# EAGLE library part MSP430G2553 (library texas)
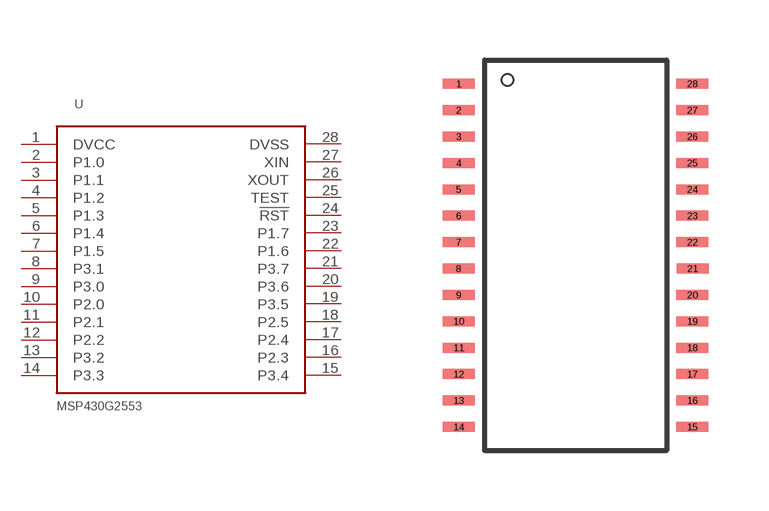
[diagram p1: symbol with the pads of TSSOP28; footprint TSSOP28]

Designator prefix -

## MSP430G2553TSSOP  [TSSOP28]
1  DVCC  pwr
2  P1.0
3  P1.1
4  P1.2
5  P1.3
6  P1.4
7  P1.5
8  P3.1
9  P3.0
10  P2.0
11  P2.1
12  P2.2
13  P3.2
14  P3.3
15  P3.4
16  P2.3
17  P2.4
18  P2.5
19  P3.5
20  P3.6
21  P3.7
22  P1.6
23  P1.7
24  !RST!
25  TEST
26  XOUT
27  XIN
28  DVSS  pwr

## Footprint TSSOP28 (pad centres in mm)
smd 0.8 x 0.25: 1 -2.921,4.623; 2 -2.921,3.962; 3 -2.921,3.302; 4 -2.921,2.642; 5 -2.921,1.981; 6 -2.921,1.321; 7 -2.921,0.66; 8 -2.927,0; 9 -2.921,-0.66; 10 -2.921,-1.321; 11 -2.921,-1.981; 12 -2.921,-2.642; 13 -2.921,-3.302; 14 -2.921,-3.962; 15 2.921,-3.962; 16 2.921,-3.302; 17 2.921,-2.642; 18 2.921,-1.981; 19 2.921,-1.321; 20 2.921,-0.66; 21 2.927,0; 22 2.921,0.66; 23 2.921,1.321; 24 2.921,1.981; 25 2.921,2.642; 26 2.921,3.302; 27 2.921,3.962; 28 2.921,4.623